# Altium schematic symbol library 74HC4050.SchLib: 1 symbol
Pins are listed as number, name and electrical type; pins without a type are passive.

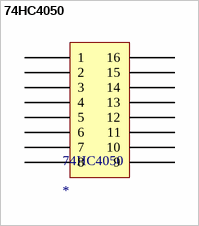
[diagram p0: symbol 74HC4050]

## 74HC4050
designator 74HC4050
footprint DIP16_74HC4050
pins: 1, 2, 3, 4, 5, 6, 7, 8, 9, 10, 11, 12, 13, 14, 15, 16